# Altium footprint library 5021_0.pcblib: 1 footprints
Each footprint in its own frame and in the unit in brackets; x right, y up, seen from the top. Pads: shape width x height; smd on the part's side, far side on the other; paste and mask are expansions set on the pad; w line width, h text height; cw(c..) or ccw(c..) is an arc to the next point about the centre after c.
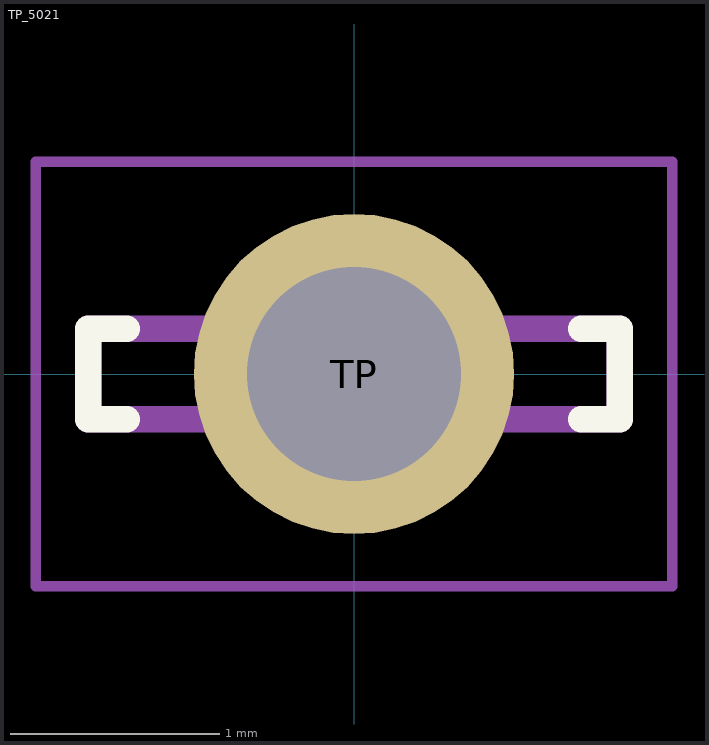
[diagram p0: the footprint, top view; thin cyan lines are the x and y axes]

## TP_5021 [mm]
height 2.54
pads (1):
  round 1.53 hole 1.02: TP(0,0)
Top Overlay:
  lines w0.127: -1.085,-0.216 -1.27,-0.216 -1.27,0.216 -1.085,0.216 ; 1.085,-0.216 1.27,-0.216 1.27,0.216 1.085,0.216
Assembly Top:
  lines w0.127: -1.27,-0.216 -1.27,0.216 1.27,0.216 1.27,-0.216 -1.27,-0.216
Courtyard Top:
  lines w0.05: -1.52,-1.015 1.52,-1.015 1.52,1.015 -1.52,1.015 -1.52,-1.015
3D body "step_temp.STEP": height 5.08, standoff 0, extent -1.268,-0.216 1.268,0.216